# Altium integrated library RF Inductors-KI_rev16a.intlib: 172 symbols (part 2 of 2)
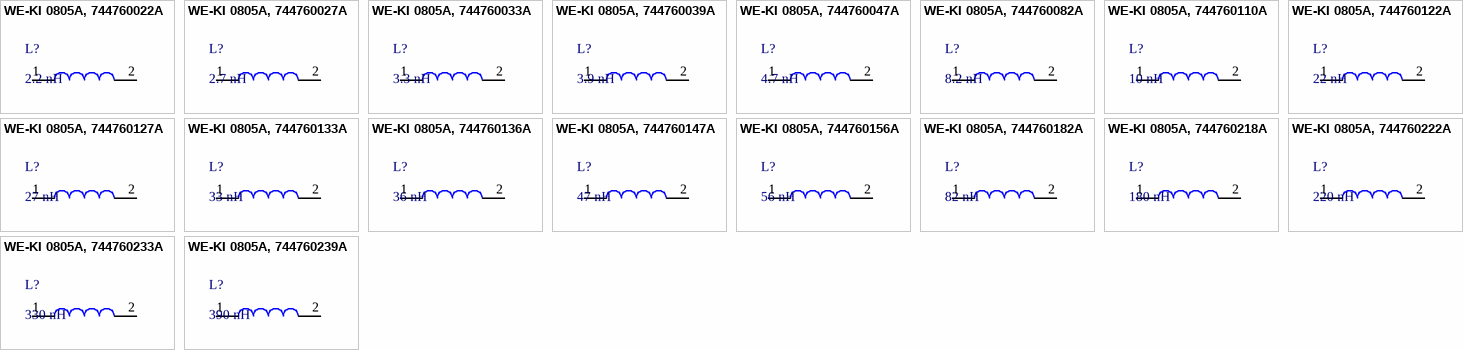
[diagram p7: symbols WE-KI 0805A, 744760022A to WE-KI 0805A, 744760239A]

## WE-KI 0805A, 744760136A
designator L?, comment 36 nH
WE-KI SMD Wire Wound Ceramic Inductor, Inductance=36 nH; partNo: 744760136A; Manufacturer: Wurth Elektronik; Inductance: 36 nH; ComponentLink1Description: Manufacturer; ComponentLink1URL: http://www.we-online.de; Created by: Baojun Chen; Created Date: Nov.2015; ComponentLink2Description: Datasheet; ComponentLink2URL: http://katalog.we-online.de/pbs/datasheet/744760136A.pdf
footprint WE-KI_0805A
pins: 1, 2

## WE-KI 0805A, 744760147A
designator L?, comment 47 nH
WE-KI SMD Wire Wound Ceramic Inductor, Inductance=47 nH; partNo: 744760147A; Manufacturer: Wurth Elektronik; Inductance: 47 nH; ComponentLink1Description: Manufacturer; ComponentLink1URL: http://www.we-online.de; Created by: Baojun Chen; Created Date: Jan.2016; ComponentLink2Description: Datasheet; ComponentLink2URL: http://katalog.we-online.de/pbs/datasheet/744760147A.pdf
footprint WE-KI_0805A
pins: 1, 2

## WE-KI 0805A, 744760156A
designator L?, comment 56 nH
WE-KI SMD Wire Wound Ceramic Inductor, Inductance=56 nH; partNo: 744760156A; Manufacturer: Wurth Elektronik; Inductance: 56 nH; ComponentLink1Description: Manufacturer; ComponentLink1URL: http://www.we-online.de; Created by: Baojun Chen; Created Date: Jan.2016; ComponentLink2Description: Datasheet; ComponentLink2URL: http://katalog.we-online.de/pbs/datasheet/744760156A.pdf
footprint WE-KI_0805A
pins: 1, 2

## WE-KI 0805A, 744760182A
designator L?, comment 82 nH
WE-KI SMD Wire Wound Ceramic Inductor, Inductance=82 nH; partNo: 744760182A; Manufacturer: Wurth Elektronik; Inductance: 82 nH; ComponentLink1Description: Manufacturer; ComponentLink1URL: http://www.we-online.de; Created by: Baojun Chen; Created Date: Jan.2016; ComponentLink2Description: Datasheet; ComponentLink2URL: http://katalog.we-online.de/pbs/datasheet/744760182A.pdf
footprint WE-KI_0805A
pins: 1, 2

## WE-KI 0805A, 744760218A
designator L?, comment 180 nH
WE-KI SMD Wire Wound Ceramic Inductor, Inductance=180 nH; partNo: 744760218A; Manufacturer: Wurth Elektronik; Inductance: 180 nH; ComponentLink1Description: Manufacturer; ComponentLink1URL: http://www.we-online.de; Created by: Baojun Chen; Created Date: Jan.2016; ComponentLink2Description: Datasheet; ComponentLink2URL: http://katalog.we-online.de/pbs/datasheet/744760218A.pdf
footprint WE-KI_0805A
pins: 1, 2

## WE-KI 0805A, 744760222A
designator L?, comment 220 nH
WE-KI SMD Wire Wound Ceramic Inductor, Inductance=220 nH; partNo: 744760222A; Manufacturer: Wurth Elektronik; Inductance: 220 nH; ComponentLink1Description: Manufacturer; ComponentLink1URL: http://www.we-online.de; Created by: Baojun Chen; Created Date: Jan.2016; ComponentLink2Description: Datasheet; ComponentLink2URL: http://katalog.we-online.de/pbs/datasheet/744760222A.pdf
footprint WE-KI_0805A
pins: 1, 2

## WE-KI 0805A, 744760233A
designator L?, comment 330 nH
WE-KI SMD Wire Wound Ceramic Inductor, Inductance=330 nH; partNo: 744760233A; Manufacturer: Wurth Elektronik; Inductance: 330 nH; ComponentLink1Description: Manufacturer; ComponentLink1URL: http://www.we-online.de; Created by: Baojun Chen; Created Date: Jan.2016; ComponentLink2Description: Datasheet; ComponentLink2URL: http://katalog.we-online.de/pbs/datasheet/744760233A.pdf
footprint WE-KI_0805A
pins: 1, 2

## WE-KI 0805A, 744760239A
designator L?, comment 390 nH
WE-KI SMD Wire Wound Ceramic Inductor, Inductance=390 nH; partNo: 744760239A; Manufacturer: Wurth Elektronik; Inductance: 390 nH; ComponentLink1Description: Manufacturer; ComponentLink1URL: http://www.we-online.de; Created by: Baojun Chen; Created Date: Jan.2016; ComponentLink2Description: Datasheet; ComponentLink2URL: http://katalog.we-online.de/pbs/datasheet/744760239A.pdf
footprint WE-KI_0805A
pins: 1, 2


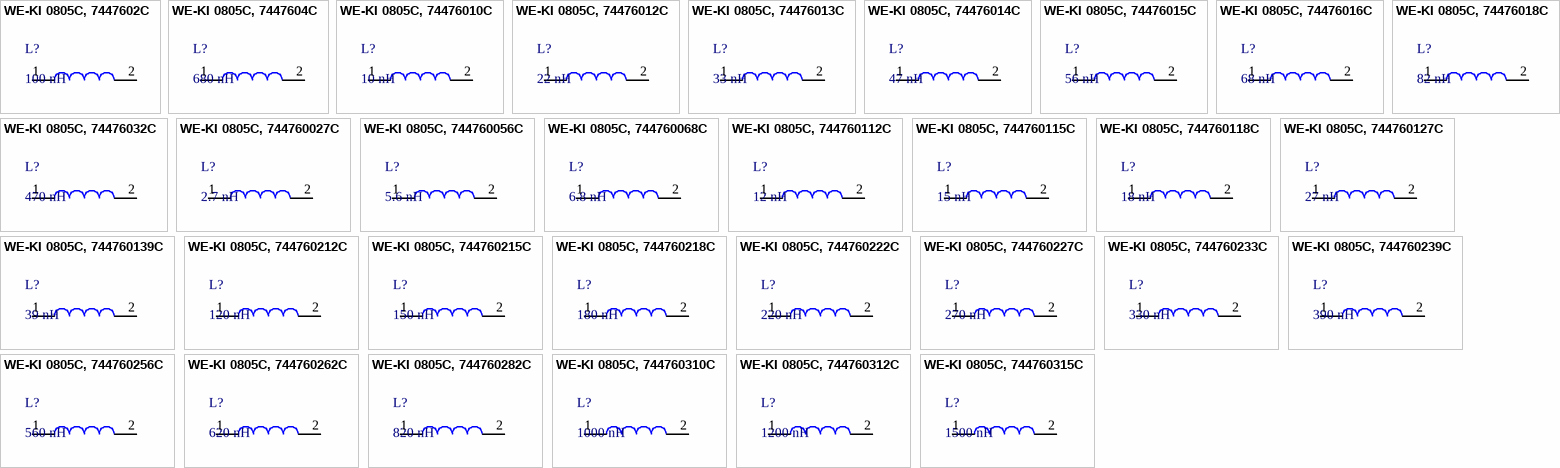
[diagram p5: symbols WE-KI 0805C, 7447602C to WE-KI 0805C, 744760315C]

## WE-KI 0805C, 7447602C
designator L?, comment 100 nH
WE-KI SMD Wire Wound Ceramic Inductor, Inductance=100 nH; partNo: 7447602C; Manufacturer: Wurth Elektronik; Inductance: 100 nH; ComponentLink1Description: Manufacturer; ComponentLink1URL: http://www.we-online.de; Created by: Baojun Chen; Created Date: Nov.2015; ComponentLink2Description: Datasheet; ComponentLink2URL: http://katalog.we-online.de/pbs/datasheet/7447602C.pdf
footprint WE-KI_0805C
pins: 1, 2

## WE-KI 0805C, 7447604C
designator L?, comment 680 nH
WE-KI SMD Wire Wound Ceramic Inductor, Inductance=680 nH; partNo: 7447604C; Manufacturer: Wurth Elektronik; Inductance: 680 nH; ComponentLink1Description: Manufacturer; ComponentLink1URL: http://www.we-online.de; Created by: Baojun Chen; Created Date: Nov.2015; ComponentLink2Description: Datasheet; ComponentLink2URL: http://katalog.we-online.de/pbs/datasheet/7447604C.pdf
footprint WE-KI_0805C
pins: 1, 2

## WE-KI 0805C, 74476010C
designator L?, comment 10 nH
WE-KI SMD Wire Wound Ceramic Inductor, Inductance=10 nH; partNo: 74476010C; Manufacturer: Wurth Elektronik; Inductance: 10 nH; ComponentLink1Description: Manufacturer; ComponentLink1URL: http://www.we-online.de; Created by: Baojun Chen; Created Date: Nov.2015; ComponentLink2Description: Datasheet; ComponentLink2URL: http://katalog.we-online.de/pbs/datasheet/74476010C.pdf
footprint WE-KI_0805C
pins: 1, 2

## WE-KI 0805C, 74476012C
designator L?, comment 22 nH
WE-KI SMD Wire Wound Ceramic Inductor, Inductance=22 nH; partNo: 74476012C; Manufacturer: Wurth Elektronik; Inductance: 22 nH; ComponentLink1Description: Manufacturer; ComponentLink1URL: http://www.we-online.de; Created by: Baojun Chen; Created Date: Nov.2015; ComponentLink2Description: Datasheet; ComponentLink2URL: http://katalog.we-online.de/pbs/datasheet/74476012C.pdf
footprint WE-KI_0805C
pins: 1, 2

## WE-KI 0805C, 74476013C
designator L?, comment 33 nH
WE-KI SMD Wire Wound Ceramic Inductor, Inductance=33 nH; partNo: 74476013C; Manufacturer: Wurth Elektronik; Inductance: 33 nH; ComponentLink1Description: Manufacturer; ComponentLink1URL: http://www.we-online.de; Created by: Baojun Chen; Created Date: Nov.2015; ComponentLink2Description: Datasheet; ComponentLink2URL: http://katalog.we-online.de/pbs/datasheet/74476013C.pdf
footprint WE-KI_0805C
pins: 1, 2

## WE-KI 0805C, 74476014C
designator L?, comment 47 nH
WE-KI SMD Wire Wound Ceramic Inductor, Inductance=47 nH; partNo: 74476014C; Manufacturer: Wurth Elektronik; Inductance: 47 nH; ComponentLink1Description: Manufacturer; ComponentLink1URL: http://www.we-online.de; Created by: Baojun Chen; Created Date: Nov.2015; ComponentLink2Description: Datasheet; ComponentLink2URL: http://katalog.we-online.de/pbs/datasheet/74476014C.pdf
footprint WE-KI_0805C
pins: 1, 2

## WE-KI 0805C, 74476015C
designator L?, comment 56 nH
WE-KI SMD Wire Wound Ceramic Inductor, Inductance=56 nH; partNo: 74476015C; Manufacturer: Wurth Elektronik; Inductance: 56 nH; ComponentLink1Description: Manufacturer; ComponentLink1URL: http://www.we-online.de; Created by: Baojun Chen; Created Date: Nov.2015; ComponentLink2Description: Datasheet; ComponentLink2URL: http://katalog.we-online.de/pbs/datasheet/74476015C.pdf
footprint WE-KI_0805C
pins: 1, 2

## WE-KI 0805C, 74476016C
designator L?, comment 68 nH
WE-KI SMD Wire Wound Ceramic Inductor, Inductance=68 nH; partNo: 74476016C; Manufacturer: Wurth Elektronik; Inductance: 68 nH; ComponentLink1Description: Manufacturer; ComponentLink1URL: http://www.we-online.de; Created by: Baojun Chen; Created Date: Nov.2015; ComponentLink2Description: Datasheet; ComponentLink2URL: http://katalog.we-online.de/pbs/datasheet/74476016C.pdf
footprint WE-KI_0805C
pins: 1, 2

## WE-KI 0805C, 74476018C
designator L?, comment 82 nH
WE-KI SMD Wire Wound Ceramic Inductor, Inductance=82 nH; partNo: 74476018C; Manufacturer: Wurth Elektronik; Inductance: 82 nH; ComponentLink1Description: Manufacturer; ComponentLink1URL: http://www.we-online.de; Created by: Baojun Chen; Created Date: Nov.2015; ComponentLink2Description: Datasheet; ComponentLink2URL: http://katalog.we-online.de/pbs/datasheet/74476018C.pdf
footprint WE-KI_0805C
pins: 1, 2

## WE-KI 0805C, 74476032C
designator L?, comment 470 nH
WE-KI SMD Wire Wound Ceramic Inductor, Inductance=470 nH; partNo: 74476032C; Manufacturer: Wurth Elektronik; Inductance: 470 nH; ComponentLink1Description: Manufacturer; ComponentLink1URL: http://www.we-online.de; Created by: Baojun Chen; Created Date: Nov.2015; ComponentLink2Description: Datasheet; ComponentLink2URL: http://katalog.we-online.de/pbs/datasheet/74476032C.pdf
footprint WE-KI_0805C
pins: 1, 2

## WE-KI 0805C, 744760027C
designator L?, comment 2.7 nH
WE-KI SMD Wire Wound Ceramic Inductor, Inductance=2.7 nH; partNo: 744760027C; Manufacturer: Wurth Elektronik; Inductance: 2.7 nH; ComponentLink1Description: Manufacturer; ComponentLink1URL: http://www.we-online.de; Created by: Baojun Chen; Created Date: Nov.2015; ComponentLink2Description: Datasheet; ComponentLink2URL: http://katalog.we-online.de/pbs/datasheet/744760027C.pdf
footprint WE-KI_0805C
pins: 1, 2

## WE-KI 0805C, 744760056C
designator L?, comment 5.6 nH
WE-KI SMD Wire Wound Ceramic Inductor, Inductance=5.6 nH; partNo: 744760056C; Manufacturer: Wurth Elektronik; Inductance: 5.6 nH; ComponentLink1Description: Manufacturer; ComponentLink1URL: http://www.we-online.de; Created by: Baojun Chen; Created Date: Nov.2015; ComponentLink2Description: Datasheet; ComponentLink2URL: http://katalog.we-online.de/pbs/datasheet/744760056C.pdf
footprint WE-KI_0805C
pins: 1, 2

## WE-KI 0805C, 744760068C
designator L?, comment 6.8 nH
WE-KI SMD Wire Wound Ceramic Inductor, Inductance=6.8 nH; partNo: 744760068C; Manufacturer: Wurth Elektronik; Inductance: 6.8 nH; ComponentLink1Description: Manufacturer; ComponentLink1URL: http://www.we-online.de; Created by: Baojun Chen; Created Date: Nov.2015; ComponentLink2Description: Datasheet; ComponentLink2URL: http://katalog.we-online.de/pbs/datasheet/744760068C.pdf
footprint WE-KI_0805C
pins: 1, 2

## WE-KI 0805C, 744760112C
designator L?, comment 12 nH
WE-KI SMD Wire Wound Ceramic Inductor, Inductance=12 nH; partNo: 744760112C; Manufacturer: Wurth Elektronik; Inductance: 12 nH; ComponentLink1Description: Manufacturer; ComponentLink1URL: http://www.we-online.de; Created by: Baojun Chen; Created Date: Nov.2015; ComponentLink2Description: Datasheet; ComponentLink2URL: http://katalog.we-online.de/pbs/datasheet/744760112C.pdf
footprint WE-KI_0805C
pins: 1, 2

## WE-KI 0805C, 744760115C
designator L?, comment 15 nH
WE-KI SMD Wire Wound Ceramic Inductor, Inductance=15 nH; partNo: 744760115C; Manufacturer: Wurth Elektronik; Inductance: 15 nH; ComponentLink1Description: Manufacturer; ComponentLink1URL: http://www.we-online.de; Created by: Baojun Chen; Created Date: Nov.2015; ComponentLink2Description: Datasheet; ComponentLink2URL: http://katalog.we-online.de/pbs/datasheet/744760115C.pdf
footprint WE-KI_0805C
pins: 1, 2

## WE-KI 0805C, 744760118C
designator L?, comment 18 nH
WE-KI SMD Wire Wound Ceramic Inductor, Inductance=18 nH; partNo: 744760118C; Manufacturer: Wurth Elektronik; Inductance: 18 nH; ComponentLink1Description: Manufacturer; ComponentLink1URL: http://www.we-online.de; Created by: Baojun Chen; Created Date: Nov.2015; ComponentLink2Description: Datasheet; ComponentLink2URL: http://katalog.we-online.de/pbs/datasheet/744760118C.pdf
footprint WE-KI_0805C
pins: 1, 2

## WE-KI 0805C, 744760127C
designator L?, comment 27 nH
WE-KI SMD Wire Wound Ceramic Inductor, Inductance=27 nH; partNo: 744760127C; Manufacturer: Wurth Elektronik; Inductance: 27 nH; ComponentLink1Description: Manufacturer; ComponentLink1URL: http://www.we-online.de; Created by: Baojun Chen; Created Date: Nov.2015; ComponentLink2Description: Datasheet; ComponentLink2URL: http://katalog.we-online.de/pbs/datasheet/744760127C.pdf
footprint WE-KI_0805C
pins: 1, 2

## WE-KI 0805C, 744760139C
designator L?, comment 39 nH
WE-KI SMD Wire Wound Ceramic Inductor, Inductance=39 nH; partNo: 744760139C; Manufacturer: Wurth Elektronik; Inductance: 39 nH; ComponentLink1Description: Manufacturer; ComponentLink1URL: http://www.we-online.de; Created by: Baojun Chen; Created Date: Nov.2015; ComponentLink2Description: Datasheet; ComponentLink2URL: http://katalog.we-online.de/pbs/datasheet/744760139C.pdf
footprint WE-KI_0805C
pins: 1, 2

## WE-KI 0805C, 744760212C
designator L?, comment 120 nH
WE-KI SMD Wire Wound Ceramic Inductor, Inductance=120 nH; partNo: 744760212C; Manufacturer: Wurth Elektronik; Inductance: 120 nH; ComponentLink1Description: Manufacturer; ComponentLink1URL: http://www.we-online.de; Created by: Baojun Chen; Created Date: Nov.2015; ComponentLink2Description: Datasheet; ComponentLink2URL: http://katalog.we-online.de/pbs/datasheet/744760212C.pdf
footprint WE-KI_0805C
pins: 1, 2

## WE-KI 0805C, 744760215C
designator L?, comment 150 nH
WE-KI SMD Wire Wound Ceramic Inductor, Inductance=150 nH; partNo: 744760215C; Manufacturer: Wurth Elektronik; Inductance: 150 nH; ComponentLink1Description: Manufacturer; ComponentLink1URL: http://www.we-online.de; Created by: Baojun Chen; Created Date: Nov.2015; ComponentLink2Description: Datasheet; ComponentLink2URL: http://katalog.we-online.de/pbs/datasheet/744760215C.pdf
footprint WE-KI_0805C
pins: 1, 2

## WE-KI 0805C, 744760218C
designator L?, comment 180 nH
WE-KI SMD Wire Wound Ceramic Inductor, Inductance=180 nH; partNo: 744760218C; Manufacturer: Wurth Elektronik; Inductance: 180 nH; ComponentLink1Description: Manufacturer; ComponentLink1URL: http://www.we-online.de; Created by: Baojun Chen; Created Date: Nov.2015; ComponentLink2Description: Datasheet; ComponentLink2URL: http://katalog.we-online.de/pbs/datasheet/744760218C.pdf
footprint WE-KI_0805C
pins: 1, 2

## WE-KI 0805C, 744760222C
designator L?, comment 220 nH
WE-KI SMD Wire Wound Ceramic Inductor, Inductance=220 nH; partNo: 744760222C; Manufacturer: Wurth Elektronik; Inductance: 220 nH; ComponentLink1Description: Manufacturer; ComponentLink1URL: http://www.we-online.de; Created by: Baojun Chen; Created Date: Nov.2015; ComponentLink2Description: Datasheet; ComponentLink2URL: http://katalog.we-online.de/pbs/datasheet/744760222C.pdf
footprint WE-KI_0805C
pins: 1, 2

## WE-KI 0805C, 744760227C
designator L?, comment 270 nH
WE-KI SMD Wire Wound Ceramic Inductor, Inductance=270 nH; partNo: 744760227C; Manufacturer: Wurth Elektronik; Inductance: 270 nH; ComponentLink1Description: Manufacturer; ComponentLink1URL: http://www.we-online.de; Created by: Baojun Chen; Created Date: Nov.2015; ComponentLink2Description: Datasheet; ComponentLink2URL: http://katalog.we-online.de/pbs/datasheet/744760227C.pdf
footprint WE-KI_0805C
pins: 1, 2

## WE-KI 0805C, 744760233C
designator L?, comment 330 nH
WE-KI SMD Wire Wound Ceramic Inductor, Inductance=330 nH; partNo: 744760233C; Manufacturer: Wurth Elektronik; Inductance: 330 nH; ComponentLink1Description: Manufacturer; ComponentLink1URL: http://www.we-online.de; Created by: Baojun Chen; Created Date: Nov.2015; ComponentLink2Description: Datasheet; ComponentLink2URL: http://katalog.we-online.de/pbs/datasheet/744760233C.pdf
footprint WE-KI_0805C
pins: 1, 2

## WE-KI 0805C, 744760239C
designator L?, comment 390 nH
WE-KI SMD Wire Wound Ceramic Inductor, Inductance=390 nH; partNo: 744760239C; Manufacturer: Wurth Elektronik; Inductance: 390 nH; ComponentLink1Description: Manufacturer; ComponentLink1URL: http://www.we-online.de; Created by: Baojun Chen; Created Date: Nov.2015; ComponentLink2Description: Datasheet; ComponentLink2URL: http://katalog.we-online.de/pbs/datasheet/744760239C.pdf
footprint WE-KI_0805C
pins: 1, 2

## WE-KI 0805C, 744760256C
designator L?, comment 560 nH
WE-KI SMD Wire Wound Ceramic Inductor, Inductance=560 nH; partNo: 744760256C; Manufacturer: Wurth Elektronik; Inductance: 560 nH; ComponentLink1Description: Manufacturer; ComponentLink1URL: http://www.we-online.de; Created by: Baojun Chen; Created Date: Nov.2015; ComponentLink2Description: Datasheet; ComponentLink2URL: http://katalog.we-online.de/pbs/datasheet/744760256C.pdf
footprint WE-KI_0805C
pins: 1, 2

## WE-KI 0805C, 744760262C
designator L?, comment 620 nH
WE-KI SMD Wire Wound Ceramic Inductor, Inductance=620 nH; partNo: 744760262C; Manufacturer: Wurth Elektronik; Inductance: 620 nH; ComponentLink1Description: Manufacturer; ComponentLink1URL: http://www.we-online.de; Created by: Baojun Chen; Created Date: Nov.2015; ComponentLink2Description: Datasheet; ComponentLink2URL: http://katalog.we-online.de/pbs/datasheet/744760262C.pdf
footprint WE-KI_0805C
pins: 1, 2

## WE-KI 0805C, 744760282C
designator L?, comment 820 nH
WE-KI SMD Wire Wound Ceramic Inductor, Inductance=820 nH; partNo: 744760282C; Manufacturer: Wurth Elektronik; Inductance: 820 nH; ComponentLink1Description: Manufacturer; ComponentLink1URL: http://www.we-online.de; Created by: Baojun Chen; Created Date: Nov.2015; ComponentLink2Description: Datasheet; ComponentLink2URL: http://katalog.we-online.de/pbs/datasheet/744760282C.pdf
footprint WE-KI_0805C
pins: 1, 2

## WE-KI 0805C, 744760310C
designator L?, comment 1000 nH
WE-KI SMD Wire Wound Ceramic Inductor, Inductance=1000 nH; partNo: 744760310C; Manufacturer: Wurth Elektronik; Inductance: 1000 nH; ComponentLink1Description: Manufacturer; ComponentLink1URL: http://www.we-online.de; Created by: Baojun Chen; Created Date: Nov.2015; ComponentLink2Description: Datasheet; ComponentLink2URL: http://katalog.we-online.de/pbs/datasheet/744760310C.pdf
footprint WE-KI_0805C
pins: 1, 2

## WE-KI 0805C, 744760312C
designator L?, comment 1200 nH
WE-KI SMD Wire Wound Ceramic Inductor, Inductance=1200 nH; partNo: 744760312C; Manufacturer: Wurth Elektronik; Inductance: 1200 nH; ComponentLink1Description: Manufacturer; ComponentLink1URL: http://www.we-online.de; Created by: Baojun Chen; Created Date: Nov.2015; ComponentLink2Description: Datasheet; ComponentLink2URL: http://katalog.we-online.de/pbs/datasheet/744760312C.pdf
footprint WE-KI_0805C
pins: 1, 2

## WE-KI 0805C, 744760315C
designator L?, comment 1500 nH
WE-KI SMD Wire Wound Ceramic Inductor, Inductance=1500 nH; partNo: 744760315C; Manufacturer: Wurth Elektronik; Inductance: 1500 nH; ComponentLink1Description: Manufacturer; ComponentLink1URL: http://www.we-online.de; Created by: Baojun Chen; Created Date: Nov.2015; ComponentLink2Description: Datasheet; ComponentLink2URL: http://katalog.we-online.de/pbs/datasheet/744760315C.pdf
footprint WE-KI_0805C
pins: 1, 2


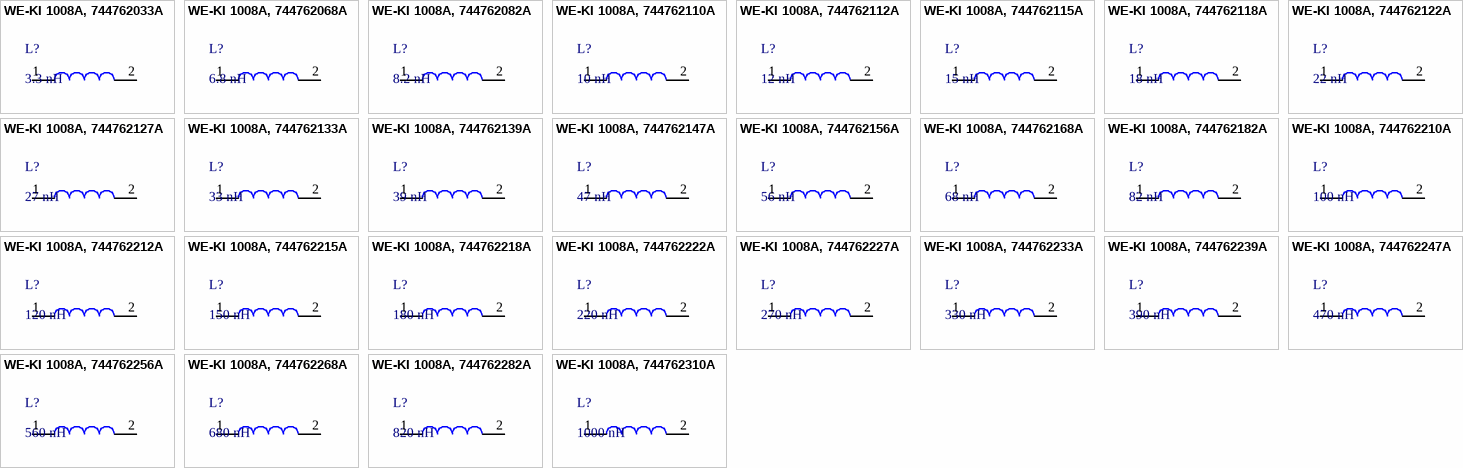
[diagram p6: symbols WE-KI 1008A, 744762033A to WE-KI 1008A, 744762310A]

## WE-KI 1008A, 744762033A
designator L?, comment 3.3 nH
WE-KI SMD Wire Wound Ceramic Inductor, Inductance=3.3 nH; partNo: 744762033A; Manufacturer: Wurth Elektronik; Inductance: 3.3 nH; ComponentLink1Description: Manufacturer; ComponentLink1URL: http://www.we-online.de; Created by: Baojun Chen; Created Date: Nov.2015; ComponentLink2Description: Datasheet; ComponentLink2URL: http://katalog.we-online.de/pbs/datasheet/744762033A.pdf
footprint WE-KI_1008A
pins: 1, 2

## WE-KI 1008A, 744762068A
designator L?, comment 6.8 nH
WE-KI SMD Wire Wound Ceramic Inductor, Inductance=6.8 nH; partNo: 744762068A; Manufacturer: Wurth Elektronik; Inductance: 6.8 nH; ComponentLink1Description: Manufacturer; ComponentLink1URL: http://www.we-online.de; Created by: Baojun Chen; Created Date: Nov.2015; ComponentLink2Description: Datasheet; ComponentLink2URL: http://katalog.we-online.de/pbs/datasheet/744762068A.pdf
footprint WE-KI_1008A
pins: 1, 2

## WE-KI 1008A, 744762082A
designator L?, comment 8.2 nH
WE-KI SMD Wire Wound Ceramic Inductor, Inductance=8.2 nH; partNo: 744762082A; Manufacturer: Wurth Elektronik; Inductance: 8.2 nH; ComponentLink1Description: Manufacturer; ComponentLink1URL: http://www.we-online.de; Created by: Baojun Chen; Created Date: Nov.2015; ComponentLink2Description: Datasheet; ComponentLink2URL: http://katalog.we-online.de/pbs/datasheet/744762082A.pdf
footprint WE-KI_1008A
pins: 1, 2

## WE-KI 1008A, 744762110A
designator L?, comment 10 nH
WE-KI SMD Wire Wound Ceramic Inductor, Inductance=10 nH; partNo: 744762110A; Manufacturer: Wurth Elektronik; Inductance: 10 nH; ComponentLink1Description: Manufacturer; ComponentLink1URL: http://www.we-online.de; Created by: Baojun Chen; Created Date: Nov.2015; ComponentLink2Description: Datasheet; ComponentLink2URL: http://katalog.we-online.de/pbs/datasheet/744762110A.pdf
footprint WE-KI_1008A
pins: 1, 2

## WE-KI 1008A, 744762112A
designator L?, comment 12 nH
WE-KI SMD Wire Wound Ceramic Inductor, Inductance=12 nH; partNo: 744762112A; Manufacturer: Wurth Elektronik; Inductance: 12 nH; ComponentLink1Description: Manufacturer; ComponentLink1URL: http://www.we-online.de; Created by: Baojun Chen; Created Date: Nov.2015; ComponentLink2Description: Datasheet; ComponentLink2URL: http://katalog.we-online.de/pbs/datasheet/744762112A.pdf
footprint WE-KI_1008A
pins: 1, 2

## WE-KI 1008A, 744762115A
designator L?, comment 15 nH
WE-KI SMD Wire Wound Ceramic Inductor, Inductance=15 nH; partNo: 744762115A; Manufacturer: Wurth Elektronik; Inductance: 15 nH; ComponentLink1Description: Manufacturer; ComponentLink1URL: http://www.we-online.de; Created by: Baojun Chen; Created Date: Nov.2015; ComponentLink2Description: Datasheet; ComponentLink2URL: http://katalog.we-online.de/pbs/datasheet/744762115A.pdf
footprint WE-KI_1008A
pins: 1, 2

## WE-KI 1008A, 744762118A
designator L?, comment 18 nH
WE-KI SMD Wire Wound Ceramic Inductor, Inductance=18 nH; partNo: 744762118A; Manufacturer: Wurth Elektronik; Inductance: 18 nH; ComponentLink1Description: Manufacturer; ComponentLink1URL: http://www.we-online.de; Created by: Baojun Chen; Created Date: Nov.2015; ComponentLink2Description: Datasheet; ComponentLink2URL: http://katalog.we-online.de/pbs/datasheet/744762118A.pdf
footprint WE-KI_1008A
pins: 1, 2

## WE-KI 1008A, 744762122A
designator L?, comment 22 nH
WE-KI SMD Wire Wound Ceramic Inductor, Inductance=22 nH; partNo: 744762122A; Manufacturer: Wurth Elektronik; Inductance: 22 nH; ComponentLink1Description: Manufacturer; ComponentLink1URL: http://www.we-online.de; Created by: Baojun Chen; Created Date: Nov.2015; ComponentLink2Description: Datasheet; ComponentLink2URL: http://katalog.we-online.de/pbs/datasheet/744762122A.pdf
footprint WE-KI_1008A
pins: 1, 2

## WE-KI 1008A, 744762127A
designator L?, comment 27 nH
WE-KI SMD Wire Wound Ceramic Inductor, Inductance=27 nH; partNo: 744762127A; Manufacturer: Wurth Elektronik; Inductance: 27 nH; ComponentLink1Description: Manufacturer; ComponentLink1URL: http://www.we-online.de; Created by: Baojun Chen; Created Date: Nov.2015; ComponentLink2Description: Datasheet; ComponentLink2URL: http://katalog.we-online.de/pbs/datasheet/744762127A.pdf
footprint WE-KI_1008A
pins: 1, 2

## WE-KI 1008A, 744762133A
designator L?, comment 33 nH
WE-KI SMD Wire Wound Ceramic Inductor, Inductance=33 nH; partNo: 744762133A; Manufacturer: Wurth Elektronik; Inductance: 33 nH; ComponentLink1Description: Manufacturer; ComponentLink1URL: http://www.we-online.de; Created by: Baojun Chen; Created Date: Nov.2015; ComponentLink2Description: Datasheet; ComponentLink2URL: http://katalog.we-online.de/pbs/datasheet/744762133A.pdf
footprint WE-KI_1008A
pins: 1, 2

## WE-KI 1008A, 744762139A
designator L?, comment 39 nH
WE-KI SMD Wire Wound Ceramic Inductor, Inductance=39 nH; partNo: 744762139A; Manufacturer: Wurth Elektronik; Inductance: 39 nH; ComponentLink1Description: Manufacturer; ComponentLink1URL: http://www.we-online.de; Created by: Baojun Chen; Created Date: Nov.2015; ComponentLink2Description: Datasheet; ComponentLink2URL: http://katalog.we-online.de/pbs/datasheet/744762139A.pdf
footprint WE-KI_1008A
pins: 1, 2

## WE-KI 1008A, 744762147A
designator L?, comment 47 nH
WE-KI SMD Wire Wound Ceramic Inductor, Inductance=47 nH; partNo: 744762147A; Manufacturer: Wurth Elektronik; Inductance: 47 nH; ComponentLink1Description: Manufacturer; ComponentLink1URL: http://www.we-online.de; Created by: Baojun Chen; Created Date: Nov.2015; ComponentLink2Description: Datasheet; ComponentLink2URL: http://katalog.we-online.de/pbs/datasheet/744762147A.pdf
footprint WE-KI_1008A
pins: 1, 2

## WE-KI 1008A, 744762156A
designator L?, comment 56 nH
WE-KI SMD Wire Wound Ceramic Inductor, Inductance=56 nH; partNo: 744762156A; Manufacturer: Wurth Elektronik; Inductance: 56 nH; ComponentLink1Description: Manufacturer; ComponentLink1URL: http://www.we-online.de; Created by: Baojun Chen; Created Date: Nov.2015; ComponentLink2Description: Datasheet; ComponentLink2URL: http://katalog.we-online.de/pbs/datasheet/744762156A.pdf
footprint WE-KI_1008A
pins: 1, 2

## WE-KI 1008A, 744762168A
designator L?, comment 68 nH
WE-KI SMD Wire Wound Ceramic Inductor, Inductance=68 nH; partNo: 744762168A; Manufacturer: Wurth Elektronik; Inductance: 68 nH; ComponentLink1Description: Manufacturer; ComponentLink1URL: http://www.we-online.de; Created by: Baojun Chen; Created Date: Nov.2015; ComponentLink2Description: Datasheet; ComponentLink2URL: http://katalog.we-online.de/pbs/datasheet/744762168A.pdf
footprint WE-KI_1008A
pins: 1, 2

## WE-KI 1008A, 744762182A
designator L?, comment 82 nH
WE-KI SMD Wire Wound Ceramic Inductor, Inductance=82 nH; partNo: 744762182A; Manufacturer: Wurth Elektronik; Inductance: 82 nH; ComponentLink1Description: Manufacturer; ComponentLink1URL: http://www.we-online.de; Created by: Baojun Chen; Created Date: Nov.2015; ComponentLink2Description: Datasheet; ComponentLink2URL: http://katalog.we-online.de/pbs/datasheet/744762182A.pdf
footprint WE-KI_1008A
pins: 1, 2

## WE-KI 1008A, 744762210A
designator L?, comment 100 nH
WE-KI SMD Wire Wound Ceramic Inductor, Inductance=100 nH; partNo: 744762210A; Manufacturer: Wurth Elektronik; Inductance: 100 nH; ComponentLink1Description: Manufacturer; ComponentLink1URL: http://www.we-online.de; Created by: Baojun Chen; Created Date: Nov.2015; ComponentLink2Description: Datasheet; ComponentLink2URL: http://katalog.we-online.de/pbs/datasheet/744762210A.pdf
footprint WE-KI_1008A
pins: 1, 2

## WE-KI 1008A, 744762212A
designator L?, comment 120 nH
WE-KI SMD Wire Wound Ceramic Inductor, Inductance=120 nH; partNo: 744762212A; Manufacturer: Wurth Elektronik; Inductance: 120 nH; ComponentLink1Description: Manufacturer; ComponentLink1URL: http://www.we-online.de; Created by: Baojun Chen; Created Date: Nov.2015; ComponentLink2Description: Datasheet; ComponentLink2URL: http://katalog.we-online.de/pbs/datasheet/744762212A.pdf
footprint WE-KI_1008A
pins: 1, 2

## WE-KI 1008A, 744762215A
designator L?, comment 150 nH
WE-KI SMD Wire Wound Ceramic Inductor, Inductance=150 nH; partNo: 744762215A; Manufacturer: Wurth Elektronik; Inductance: 150 nH; ComponentLink1Description: Manufacturer; ComponentLink1URL: http://www.we-online.de; Created by: Baojun Chen; Created Date: Nov.2015; ComponentLink2Description: Datasheet; ComponentLink2URL: http://katalog.we-online.de/pbs/datasheet/744762215A.pdf
footprint WE-KI_1008A
pins: 1, 2

## WE-KI 1008A, 744762218A
designator L?, comment 180 nH
WE-KI SMD Wire Wound Ceramic Inductor, Inductance=180 nH; partNo: 744762218A; Manufacturer: Wurth Elektronik; Inductance: 180 nH; ComponentLink1Description: Manufacturer; ComponentLink1URL: http://www.we-online.de; Created by: Baojun Chen; Created Date: Nov.2015; ComponentLink2Description: Datasheet; ComponentLink2URL: http://katalog.we-online.de/pbs/datasheet/744762218A.pdf
footprint WE-KI_1008A
pins: 1, 2

## WE-KI 1008A, 744762222A
designator L?, comment 220 nH
WE-KI SMD Wire Wound Ceramic Inductor, Inductance=220 nH; partNo: 744762222A; Manufacturer: Wurth Elektronik; Inductance: 220 nH; ComponentLink1Description: Manufacturer; ComponentLink1URL: http://www.we-online.de; Created by: Baojun Chen; Created Date: Nov.2015; ComponentLink2Description: Datasheet; ComponentLink2URL: http://katalog.we-online.de/pbs/datasheet/744762222A.pdf
footprint WE-KI_1008A
pins: 1, 2

## WE-KI 1008A, 744762227A
designator L?, comment 270 nH
WE-KI SMD Wire Wound Ceramic Inductor, Inductance=270 nH; partNo: 744762227A; Manufacturer: Wurth Elektronik; Inductance: 270 nH; ComponentLink1Description: Manufacturer; ComponentLink1URL: http://www.we-online.de; Created by: Baojun Chen; Created Date: Nov.2015; ComponentLink2Description: Datasheet; ComponentLink2URL: http://katalog.we-online.de/pbs/datasheet/744762227A.pdf
footprint WE-KI_1008A
pins: 1, 2

## WE-KI 1008A, 744762233A
designator L?, comment 330 nH
WE-KI SMD Wire Wound Ceramic Inductor, Inductance=330 nH; partNo: 744762233A; Manufacturer: Wurth Elektronik; Inductance: 330 nH; ComponentLink1Description: Manufacturer; ComponentLink1URL: http://www.we-online.de; Created by: Baojun Chen; Created Date: Nov.2015; ComponentLink2Description: Datasheet; ComponentLink2URL: http://katalog.we-online.de/pbs/datasheet/744762233A.pdf
footprint WE-KI_1008A
pins: 1, 2

## WE-KI 1008A, 744762239A
designator L?, comment 390 nH
WE-KI SMD Wire Wound Ceramic Inductor, Inductance=390 nH; partNo: 744762239A; Manufacturer: Wurth Elektronik; Inductance: 390 nH; ComponentLink1Description: Manufacturer; ComponentLink1URL: http://www.we-online.de; Created by: Baojun Chen; Created Date: Nov.2015; ComponentLink2Description: Datasheet; ComponentLink2URL: http://katalog.we-online.de/pbs/datasheet/744762239A.pdf
footprint WE-KI_1008A
pins: 1, 2

## WE-KI 1008A, 744762247A
designator L?, comment 470 nH
WE-KI SMD Wire Wound Ceramic Inductor, Inductance=470 nH; partNo: 744762247A; Manufacturer: Wurth Elektronik; Inductance: 470 nH; ComponentLink1Description: Manufacturer; ComponentLink1URL: http://www.we-online.de; Created by: Baojun Chen; Created Date: Nov.2015; ComponentLink2Description: Datasheet; ComponentLink2URL: http://katalog.we-online.de/pbs/datasheet/744762247A.pdf
footprint WE-KI_1008A
pins: 1, 2

## WE-KI 1008A, 744762256A
designator L?, comment 560 nH
WE-KI SMD Wire Wound Ceramic Inductor, Inductance=560 nH; partNo: 744762256A; Manufacturer: Wurth Elektronik; Inductance: 560 nH; ComponentLink1Description: Manufacturer; ComponentLink1URL: http://www.we-online.de; Created by: Baojun Chen; Created Date: Nov.2015; ComponentLink2Description: Datasheet; ComponentLink2URL: http://katalog.we-online.de/pbs/datasheet/744762256A.pdf
footprint WE-KI_1008A
pins: 1, 2

## WE-KI 1008A, 744762268A
designator L?, comment 680 nH
WE-KI SMD Wire Wound Ceramic Inductor, Inductance=680 nH; partNo: 744762268A; Manufacturer: Wurth Elektronik; Inductance: 680 nH; ComponentLink1Description: Manufacturer; ComponentLink1URL: http://www.we-online.de; Created by: Baojun Chen; Created Date: Nov.2015; ComponentLink2Description: Datasheet; ComponentLink2URL: http://katalog.we-online.de/pbs/datasheet/744762268A.pdf
footprint WE-KI_1008A
pins: 1, 2

## WE-KI 1008A, 744762282A
designator L?, comment 820 nH
WE-KI SMD Wire Wound Ceramic Inductor, Inductance=820 nH; partNo: 744762282A; Manufacturer: Wurth Elektronik; Inductance: 820 nH; ComponentLink1Description: Manufacturer; ComponentLink1URL: http://www.we-online.de; Created by: Baojun Chen; Created Date: Nov.2015; ComponentLink2Description: Datasheet; ComponentLink2URL: http://katalog.we-online.de/pbs/datasheet/744762282A.pdf
footprint WE-KI_1008A
pins: 1, 2

## WE-KI 1008A, 744762310A
designator L?, comment 1000 nH
WE-KI SMD Wire Wound Ceramic Inductor, Inductance=1000 nH; partNo: 744762310A; Manufacturer: Wurth Elektronik; Inductance: 1000 nH; ComponentLink1Description: Manufacturer; ComponentLink1URL: http://www.we-online.de; Created by: Baojun Chen; Created Date: Nov.2015; ComponentLink2Description: Datasheet; ComponentLink2URL: http://katalog.we-online.de/pbs/datasheet/744762310A.pdf
footprint WE-KI_1008A
pins: 1, 2